# Altium footprint library 03R-JWPF-VSLE-S.PcbLib: 1 footprints
Each footprint in its own frame and in the unit in brackets; x right, y up, seen from the top. Pads: shape width x height; smd on the part's side, far side on the other; paste and mask are expansions set on the pad; w line width, h text height; cw(c..) or ccw(c..) is an arc to the next point about the centre after c.
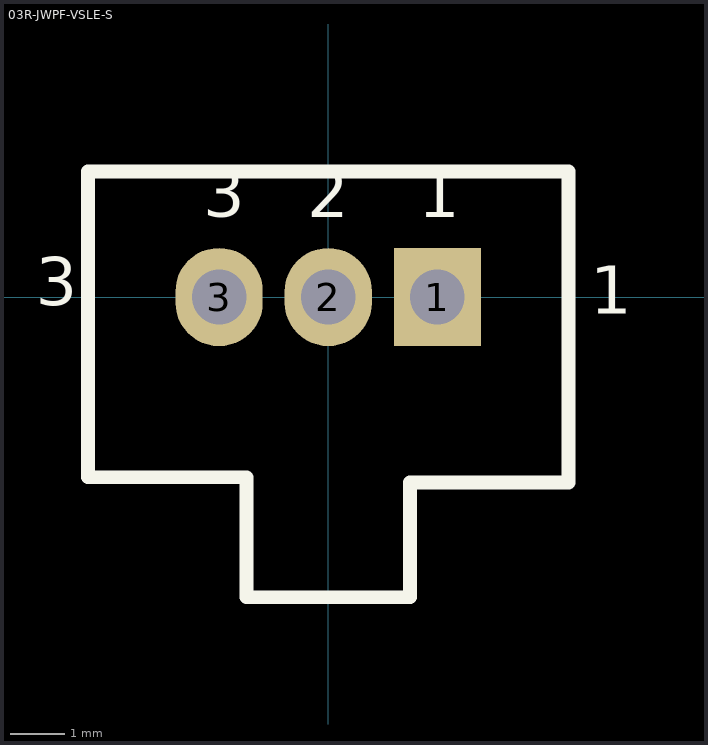
[diagram p0: the footprint, top view; thin cyan lines are the x and y axes]

## 03R-JWPF-VSLE-S [mm]
pads (3):
  rect 1.6x1.8 hole 1: 1(2,0)
  oval 1.6x1.8 hole 1: 2(0,0) 3(-2,0)
Top Overlay:
  lines w0.254: -4.4,-3.3 -1.5,-3.3 -1.5,-5.5 1.5,-5.5 1.5,-3.4 4.4,-3.4 4.4,2.3 -4.4,2.3 -4.4,-3.3
  text "3" at -5.357,-0.444 h1.5
  text "1" at 4.8,-0.6 h1.5
  text "2" at -0.381,1.164 h1.5
  text "1" at 1.651,1.164 h1.5
  text "3" at -2.286,1.181 h1.5
Bottom Overlay:
  text "2" at 0.254,1.164 h1.5
  text "1" at 2.159,1.164 h1.5
  text "3" at -1.651,1.181 h1.5
3D body "03R-JWPF-VSLE-S.STEP": height 16.56, standoff 0.01, extent -4.4,-5.55 4.4,2.25